# EAGLE library part LTC3588 (library SparkFun-PowerIC)
Energy Harvesting Power Supply
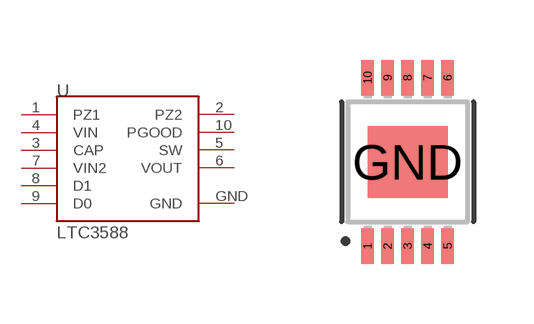
[diagram p14: symbol with the pads of MSOP-10-GNDPAD; footprint MSOP-10-GNDPAD]

Designator prefix U

## LTC3588_  [MSOP-10-GNDPAD]
1  PZ1
2  PZ2
3  CAP
4  VIN
5  SW
6  VOUT
7  VIN2
8  D1
9  D0
10  PGOOD
GND  GND

## Footprint MSOP-10-GNDPAD (pad centres in mm)
10-lead MSOP w/ center GND pad
smd 0.305 x 0.889: 1 -1,-2.11; 2 -0.5,-2.11; 3 0,-2.11; 4 0.5,-2.11; 5 1,-2.11; 6 1,2.11; 7 0.5,2.11; 8 0,2.11; 9 -0.5,2.11; 10 -1,2.11
smd 2 x 1.8: GND 0,0